# Altium schematic symbol library ST Microelectronics STM32 G4.SchLib: 102 symbols (part 4 of 4)
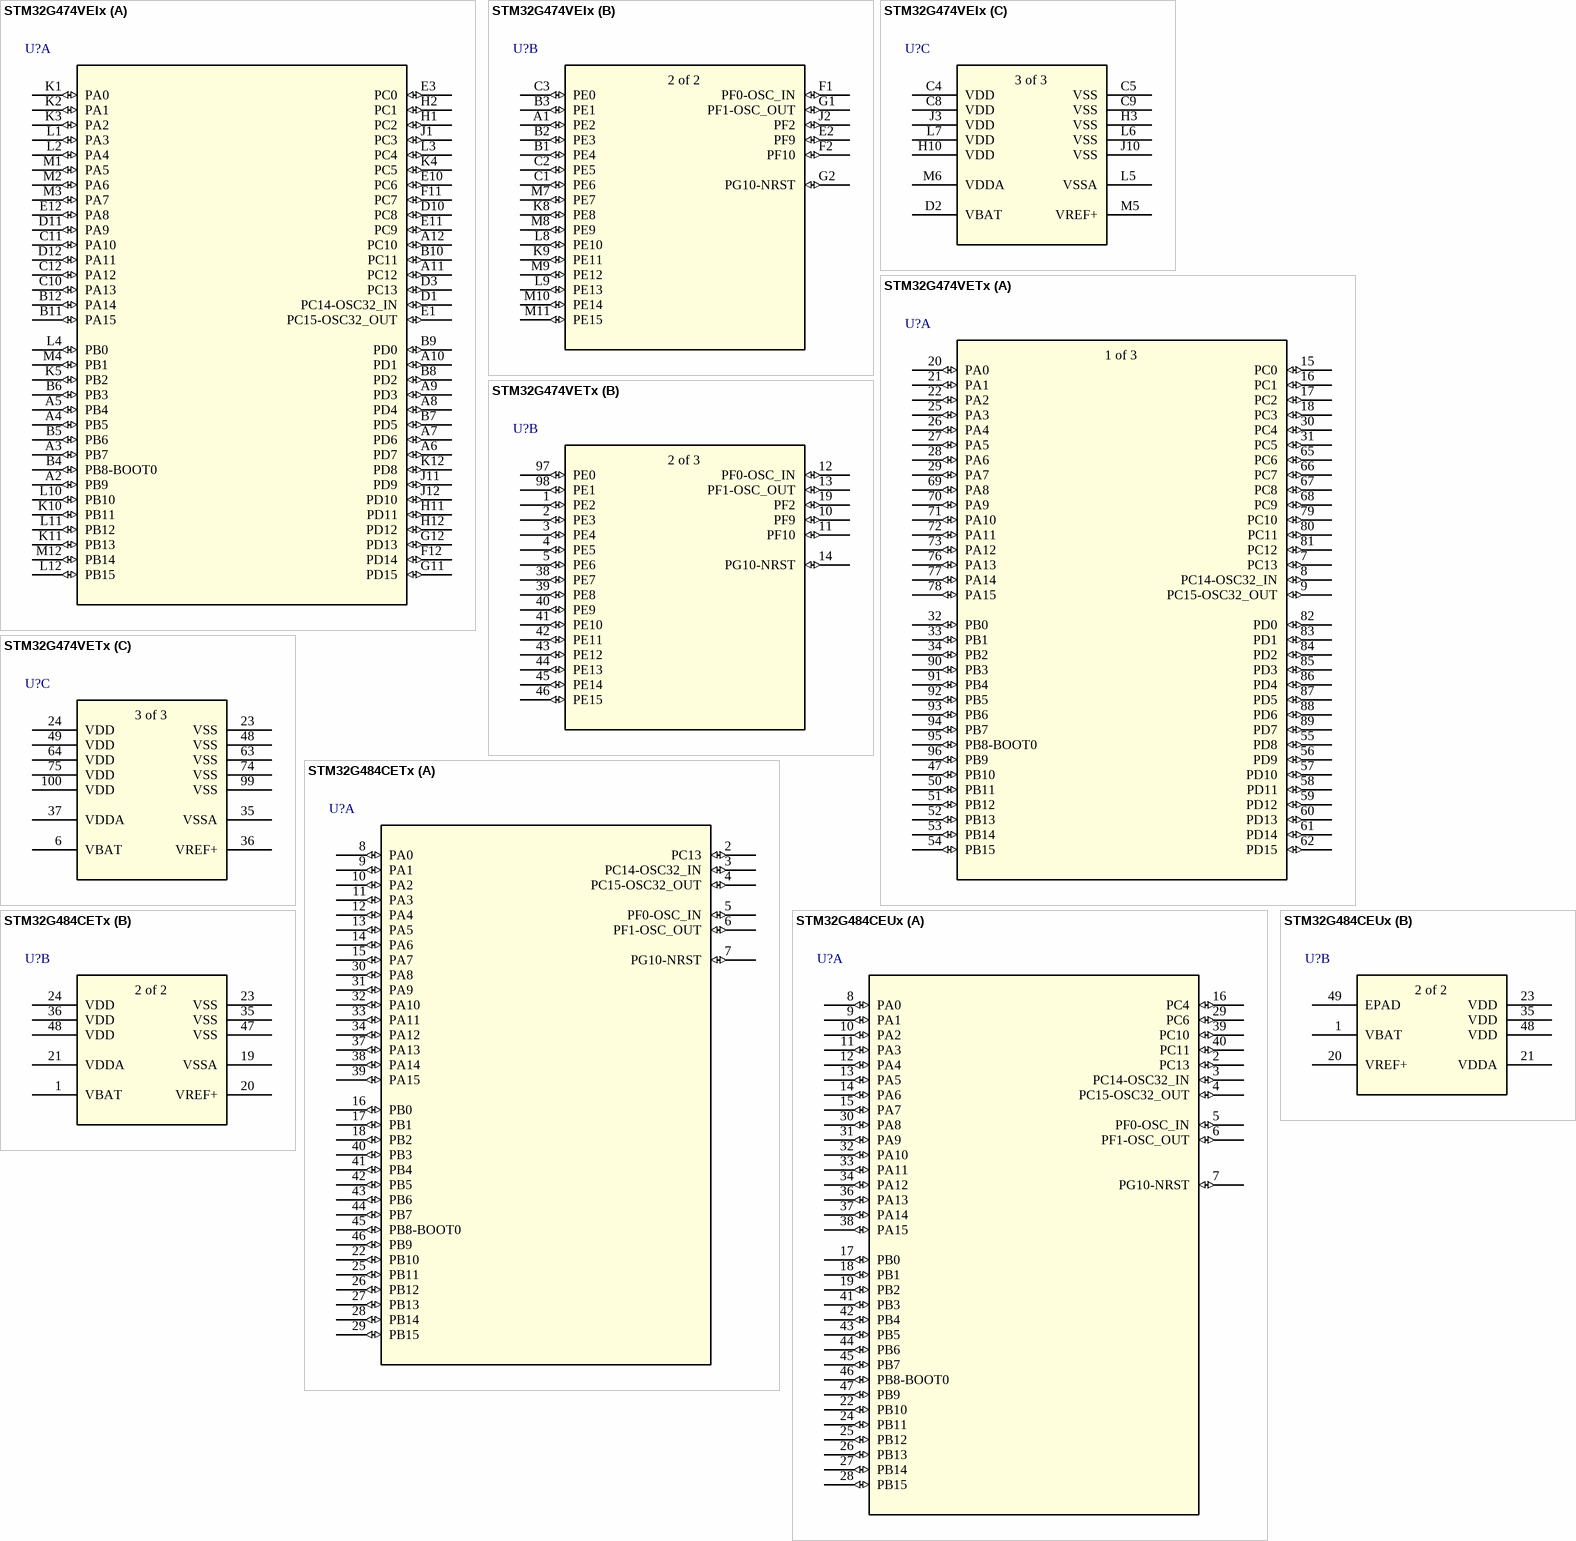
[diagram p29: symbols STM32G474VEIx to STM32G484CEUx]

## STM32G484CEUx
designator U?
Mainstream Arm Cortex-M4 core with DSP and FPU, 170MHz with 512Kbytes of Flash memory, Math Accelerator, HR Timer, High Analog level integration, Crypto AES-256; Manufacturer_Part_Number: stm32g4_ufqfpn48_t3; Built_By: EMA_Jessica; Vendor: STMicroelectronics; Copyright: Copyright (C) 2016 Accelerated Designs. All rights reserved; RefDes: RefDes; Type: DEV; Value: Value
footprint UFQFPN-48_7X7X0P
part A pins: 2 PC13 (io), 3 PC14-OSC32_IN (io), 4 PC15-OSC32_OUT (io), 5 PF0-OSC_IN (io), 6 PF1-OSC_OUT (io), 7 PG10-NRST (io), 8 PA0 (io), 9 PA1 (io), 10 PA2 (io), 11 PA3 (io), 12 PA4 (io), 13 PA5 (io), 14 PA6 (io), 15 PA7 (io), 16 PC4 (io), 17 PB0 (io), 18 PB1 (io), 19 PB2 (io), 22 PB10 (io), 24 PB11 (io), 25 PB12 (io), 26 PB13 (io), 27 PB14 (io), 28 PB15 (io), 29 PC6 (io), 30 PA8 (io), 31 PA9 (io), 32 PA10 (io), 33 PA11 (io), 34 PA12 (io), 36 PA13 (io), 37 PA14 (io), 38 PA15 (io), 39 PC10 (io), 40 PC11 (io), 41 PB3 (io), 42 PB4 (io), 43 PB5 (io), 44 PB6 (io), 45 PB7 (io), 46 PB8-BOOT0 (io), 47 PB9 (io)
part B pins: 1 VBAT (power), 20 VREF+ (power), 21 VDDA (power), 23 VDD (power), 35 VDD (power), 48 VDD (power), 49 EPAD
part B text: 2 of 2

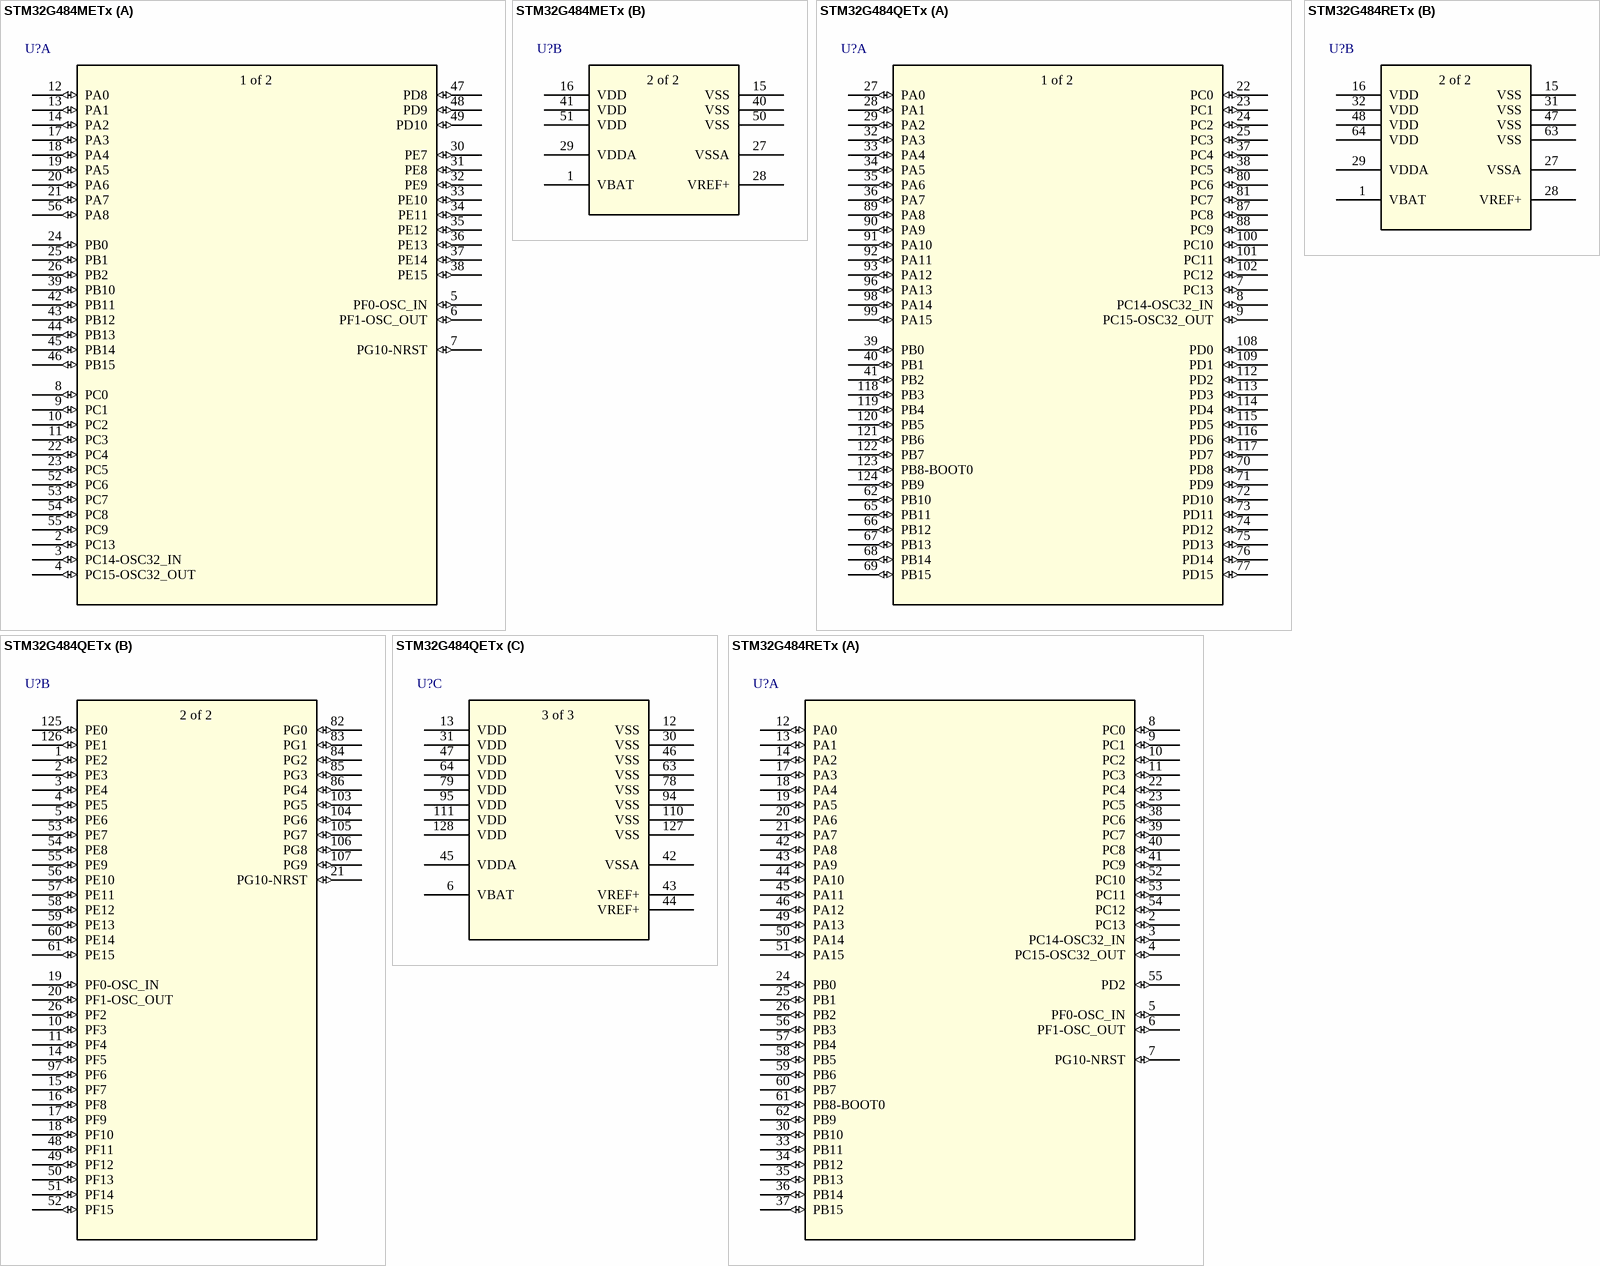
[diagram p25: symbols STM32G484METx to STM32G484RETx]

## STM32G484METx
designator U?
Mainstream Arm Cortex-M4 core with DSP and FPU, 170MHz with 512Kbytes of Flash memory, Math Accelerator, High Analog level integration, Crypto AES-256; Manufacturer_Part_Number: stm32g4_lqfp80_t1; Built_By: EMA_Jessica; Vendor: STMicroelectronics; Copyright: Copyright (C) 2016 Accelerated Designs. All rights reserved; RefDes: RefDes; Type: DEV; Value: Value
footprint LQFP-80
part A pins: 2 PC13 (io), 3 PC14-OSC32_IN (io), 4 PC15-OSC32_OUT (io), 5 PF0-OSC_IN (io), 6 PF1-OSC_OUT (io), 7 PG10-NRST (io), 8 PC0 (io), 9 PC1 (io), 10 PC2 (io), 11 PC3 (io), 12 PA0 (io), 13 PA1 (io), 14 PA2 (io), 17 PA3 (io), 18 PA4 (io), 19 PA5 (io), 20 PA6 (io), 21 PA7 (io), 22 PC4 (io), 23 PC5 (io), 24 PB0 (io), 25 PB1 (io), 26 PB2 (io), 30 PE7 (io), 31 PE8 (io), 32 PE9 (io), 33 PE10 (io), 34 PE11 (io), 35 PE12 (io), 36 PE13 (io), 37 PE14 (io), 38 PE15 (io), 39 PB10 (io), 42 PB11 (io), 43 PB12 (io), 44 PB13 (io), 45 PB14 (io), 46 PB15 (io), 47 PD8 (io), 48 PD9 (io), 49 PD10 (io), 52 PC6 (io), 53 PC7 (io), 54 PC8 (io), 55 PC9 (io), 56 PA8 (io)
part B pins: 1 VBAT (power), 15 VSS (power), 16 VDD (power), 27 VSSA (power), 28 VREF+ (power), 29 VDDA (power), 40 VSS (power), 41 VDD (power), 50 VSS (power), 51 VDD (power)
part A text: 1 of 2
part B text: 2 of 2

## STM32G484QETx
designator U?
Mainstream Arm Cortex-M4 core with DSP and FPU, 170MHz with 512Kbytes of Flash memory, Math Accelerator, HR Timer, High Analog level integration, Crypto AES-256; Manufacturer_Part_Number: stm32g4_lpqfp128_t1; Built_By: EMA_Jessica; Vendor: STMicroelectronics; Copyright: Copyright (C) 2016 Accelerated Designs. All rights reserved; RefDes: RefDes; Type: DEV; Value: Value
footprint LPQFP-128
part A pins: 7 PC13 (io), 8 PC14-OSC32_IN (io), 9 PC15-OSC32_OUT (io), 22 PC0 (io), 23 PC1 (io), 24 PC2 (io), 25 PC3 (io), 27 PA0 (io), 28 PA1 (io), 29 PA2 (io), 32 PA3 (io), 33 PA4 (io), 34 PA5 (io), 35 PA6 (io), 36 PA7 (io), 37 PC4 (io), 38 PC5 (io), 39 PB0 (io), 40 PB1 (io), 41 PB2 (io), 62 PB10 (io), 65 PB11 (io), 66 PB12 (io), 67 PB13 (io), 68 PB14 (io), 69 PB15 (io), 70 PD8 (io), 71 PD9 (io), 72 PD10 (io), 73 PD11 (io), 74 PD12 (io), 75 PD13 (io), 76 PD14 (io), 77 PD15 (io), 80 PC6 (io), 81 PC7 (io), 87 PC8 (io), 88 PC9 (io), 89 PA8 (io), 90 PA9 (io), 91 PA10 (io), 92 PA11 (io), 93 PA12 (io), 96 PA13 (io), 98 PA14 (io), 99 PA15 (io), 100 PC10 (io), 101 PC11 (io), 102 PC12 (io), 108 PD0 (io), 109 PD1 (io), 112 PD2 (io), 113 PD3 (io), 114 PD4 (io), 115 PD5 (io), 116 PD6 (io), 117 PD7 (io), 118 PB3 (io), 119 PB4 (io), 120 PB5 (io), 121 PB6 (io), 122 PB7 (io), 123 PB8-BOOT0 (io), 124 PB9 (io)
part B pins: 1 PE2 (io), 2 PE3 (io), 3 PE4 (io), 4 PE5 (io), 5 PE6 (io), 10 PF3 (io), 11 PF4 (io), 14 PF5 (io), 15 PF7 (io), 16 PF8 (io), 17 PF9 (io), 18 PF10 (io), 19 PF0-OSC_IN (io), 20 PF1-OSC_OUT (io), 21 PG10-NRST (io), 26 PF2 (io), 48 PF11 (io), 49 PF12 (io), 50 PF13 (io), 51 PF14 (io), 52 PF15 (io), 53 PE7 (io), 54 PE8 (io), 55 PE9 (io), 56 PE10 (io), 57 PE11 (io), 58 PE12 (io), 59 PE13 (io), 60 PE14 (io), 61 PE15 (io), 82 PG0 (io), 83 PG1 (io), 84 PG2 (io), 85 PG3 (io), 86 PG4 (io), 97 PF6 (io), 103 PG5 (io), 104 PG6 (io), 105 PG7 (io), 106 PG8 (io), 107 PG9 (io), 125 PE0 (io), 126 PE1 (io)
part C pins: 6 VBAT (power), 12 VSS (power), 13 VDD (power), 30 VSS (power), 31 VDD (power), 42 VSSA (power), 43 VREF+ (power), 44 VREF+ (power), 45 VDDA (power), 46 VSS (power), 47 VDD (power), 63 VSS (power), 64 VDD (power), 78 VSS (power), 79 VDD (power), 94 VSS (power), 95 VDD (power), 110 VSS (power), 111 VDD (power), 127 VSS (power), 128 VDD (power)
part A text: 1 of 2
part B text: 2 of 2
part C text: 3 of 3

## STM32G484RETx
designator U?
Mainstream Arm Cortex-M4 core with DSP and FPU, 170MHz with 512Kbytes of Flash memory, Math Accelerator, HR Timer, High Analog level integration, Crypto AES-256; Manufacturer_Part_Number: stm32g4_lqfp64_t1; Built_By: EMA_Jessica; Vendor: STMicroelectronics; Copyright: Copyright (C) 2016 Accelerated Designs. All rights reserved; RefDes: RefDes; Type: DEV; Value: Value
footprint LQFP64-10x10mm
part A pins: 2 PC13 (io), 3 PC14-OSC32_IN (io), 4 PC15-OSC32_OUT (io), 5 PF0-OSC_IN (io), 6 PF1-OSC_OUT (io), 7 PG10-NRST (io), 8 PC0 (io), 9 PC1 (io), 10 PC2 (io), 11 PC3 (io), 12 PA0 (io), 13 PA1 (io), 14 PA2 (io), 17 PA3 (io), 18 PA4 (io), 19 PA5 (io), 20 PA6 (io), 21 PA7 (io), 22 PC4 (io), 23 PC5 (io), 24 PB0 (io), 25 PB1 (io), 26 PB2 (io), 30 PB10 (io), 33 PB11 (io), 34 PB12 (io), 35 PB13 (io), 36 PB14 (io), 37 PB15 (io), 38 PC6 (io), 39 PC7 (io), 40 PC8 (io), 41 PC9 (io), 42 PA8 (io), 43 PA9 (io), 44 PA10 (io), 45 PA11 (io), 46 PA12 (io), 49 PA13 (io), 50 PA14 (io), 51 PA15 (io), 52 PC10 (io), 53 PC11 (io), 54 PC12 (io), 55 PD2 (io), 56 PB3 (io), 57 PB4 (io), 58 PB5 (io), 59 PB6 (io), 60 PB7 (io), 61 PB8-BOOT0 (io), 62 PB9 (io)
part B pins: 1 VBAT (power), 15 VSS (power), 16 VDD (power), 27 VSSA (power), 28 VREF+ (power), 29 VDDA (power), 31 VSS (power), 32 VDD (power), 47 VSS (power), 48 VDD (power), 63 VSS (power), 64 VDD (power)
part B text: 2 of 2

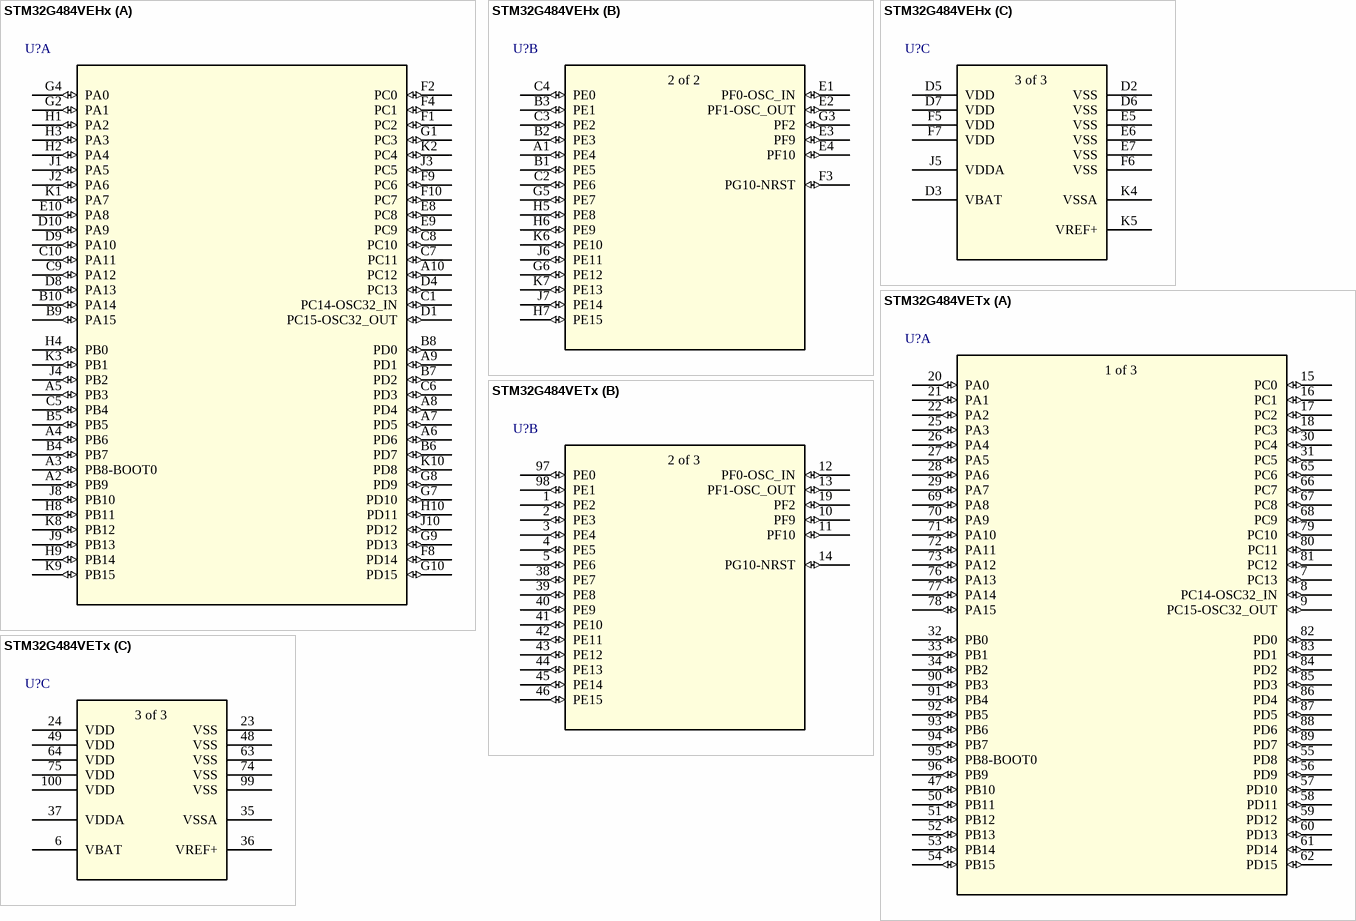
[diagram p26: symbols STM32G484VEHx to STM32G484VETx]

## STM32G484VEHx
designator U?
Mainstream Arm Cortex-M4 core with DSP and FPU, 170MHz with 512Kbytes of Flash memory, Math Accelerator, HR Timer, High Analog level integration, Crypto AES-256; Manufacturer_Part_Number: stm32g4_tfbga100_t1; Built_By: EMA_Jessica; Vendor: STMicroelectronics; Copyright: Copyright (C) 2016 Accelerated Designs. All rights reserved; RefDes: RefDes; Type: DEV; Value: Value
footprint TFBGA-100
part A pins: A2 PB9 (io), A3 PB8-BOOT0 (io), A4 PB6 (io), A5 PB3 (io), A6 PD6 (io), A7 PD5 (io), A8 PD4 (io), A9 PD1 (io), A10 PC12 (io), B4 PB7 (io), B5 PB5 (io), B6 PD7 (io), B7 PD2 (io), B8 PD0 (io), B9 PA15 (io), B10 PA14 (io), C1 PC14-OSC32_IN (io), C5 PB4 (io), C6 PD3 (io), C7 PC11 (io), C8 PC10 (io), C9 PA12 (io), C10 PA11 (io), D1 PC15-OSC32_OUT (io), D4 PC13 (io), D8 PA13 (io), D9 PA10 (io), D10 PA9 (io), E8 PC8 (io), E9 PC9 (io), E10 PA8 (io), F1 PC2 (io), F2 PC0 (io), F4 PC1 (io), F8 PD14 (io), F9 PC6 (io), F10 PC7 (io), G1 PC3 (io), G2 PA1 (io), G4 PA0 (io), G7 PD10 (io), G8 PD9 (io), G9 PD13 (io), G10 PD15 (io), H1 PA2 (io), H2 PA4 (io), H3 PA3 (io), H4 PB0 (io), H8 PB11 (io), H9 PB14 (io), H10 PD11 (io), J1 PA5 (io), J2 PA6 (io), J3 PC5 (io), J4 PB2 (io), J8 PB10 (io), J9 PB13 (io), J10 PD12 (io), K1 PA7 (io), K2 PC4 (io), K3 PB1 (io), K8 PB12 (io), K9 PB15 (io), K10 PD8 (io)
part B pins: A1 PE4 (io), B1 PE5 (io), B2 PE3 (io), B3 PE1 (io), C2 PE6 (io), C3 PE2 (io), C4 PE0 (io), E1 PF0-OSC_IN (io), E2 PF1-OSC_OUT (io), E3 PF9 (io), E4 PF10 (io), F3 PG10-NRST (io), G3 PF2 (io), G5 PE7 (io), G6 PE12 (io), H5 PE8 (io), H6 PE9 (io), H7 PE15 (io), J6 PE11 (io), J7 PE14 (io), K6 PE10 (io), K7 PE13 (io)
part C pins: D2 VSS (power), D3 VBAT (power), D5 VDD (power), D6 VSS (power), D7 VDD (power), E5 VSS (power), E6 VSS (power), E7 VSS (power), F5 VDD (power), F6 VSS (power), F7 VDD (power), J5 VDDA (power), K4 VSSA (power), K5 VREF+ (power)
part B text: 2 of 2
part C text: 3 of 3

## STM32G484VETx
designator U?
Mainstream Arm Cortex-M4 core with DSP and FPU, 170MHz with 512Kbytes of Flash memory, Math Accelerator, HR Timer, High Analog level integration, Crypto AES-256; Manufacturer_Part_Number: stm32g4_lpqfp100_t1; Built_By: EMA_Jessica; Vendor: STMicroelectronics; Copyright: Copyright (C) 2016 Accelerated Designs. All rights reserved; RefDes: RefDes; Type: DEV; Value: Value
footprint LPQFP-100
part A pins: 7 PC13 (io), 8 PC14-OSC32_IN (io), 9 PC15-OSC32_OUT (io), 15 PC0 (io), 16 PC1 (io), 17 PC2 (io), 18 PC3 (io), 20 PA0 (io), 21 PA1 (io), 22 PA2 (io), 25 PA3 (io), 26 PA4 (io), 27 PA5 (io), 28 PA6 (io), 29 PA7 (io), 30 PC4 (io), 31 PC5 (io), 32 PB0 (io), 33 PB1 (io), 34 PB2 (io), 47 PB10 (io), 50 PB11 (io), 51 PB12 (io), 52 PB13 (io), 53 PB14 (io), 54 PB15 (io), 55 PD8 (io), 56 PD9 (io), 57 PD10 (io), 58 PD11 (io), 59 PD12 (io), 60 PD13 (io), 61 PD14 (io), 62 PD15 (io), 65 PC6 (io), 66 PC7 (io), 67 PC8 (io), 68 PC9 (io), 69 PA8 (io), 70 PA9 (io), 71 PA10 (io), 72 PA11 (io), 73 PA12 (io), 76 PA13 (io), 77 PA14 (io), 78 PA15 (io), 79 PC10 (io), 80 PC11 (io), 81 PC12 (io), 82 PD0 (io), 83 PD1 (io), 84 PD2 (io), 85 PD3 (io), 86 PD4 (io), 87 PD5 (io), 88 PD6 (io), 89 PD7 (io), 90 PB3 (io), 91 PB4 (io), 92 PB5 (io), 93 PB6 (io), 94 PB7 (io), 95 PB8-BOOT0 (io), 96 PB9 (io)
part B pins: 1 PE2 (io), 2 PE3 (io), 3 PE4 (io), 4 PE5 (io), 5 PE6 (io), 10 PF9 (io), 11 PF10 (io), 12 PF0-OSC_IN (io), 13 PF1-OSC_OUT (io), 14 PG10-NRST (io), 19 PF2 (io), 38 PE7 (io), 39 PE8 (io), 40 PE9 (io), 41 PE10 (io), 42 PE11 (io), 43 PE12 (io), 44 PE13 (io), 45 PE14 (io), 46 PE15 (io), 97 PE0 (io), 98 PE1 (io)
part C pins: 6 VBAT (power), 23 VSS (power), 24 VDD (power), 35 VSSA (power), 36 VREF+ (power), 37 VDDA (power), 48 VSS (power), 49 VDD (power), 63 VSS (power), 64 VDD (power), 74 VSS (power), 75 VDD (power), 99 VSS (power), 100 VDD (power)
part A text: 1 of 3
part B text: 2 of 3
part C text: 3 of 3